# Altium integrated library Headers.IntLib: 1 symbol
Pins are listed as number, name and electrical type; pins without a type are passive.

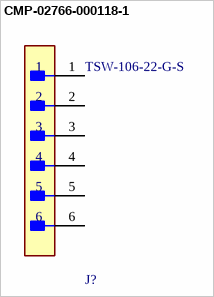
[diagram p0: symbol CMP-02766-000118-1]

## CMP-02766-000118-1
designator J?, comment TSW-106-22-G-S
CONN HEADER VERT 6POS 2.54MM; Gender: Male; Number of Contacts: 6; REACH SVHC: No SVHC; Number of Rows: 1; Contact Material: Bronze; Contact Plating: Gold; Termination: Solder; Mount: Through Hole
footprint FP-TSW-106-22-G-S-MFG
pins: 1, 2, 3, 4, 5, 6